# EAGLE library part 62504421721 (library Wire-to-Board (rev18a))
WR-BHD 2.00mm Male Angled Box Header, 44 Pins=>Code : Con_WTB_BHD_2.00_Male_THT_62504421721 <http://katalog.we-online.de/media/thumbs2/eican/thb_Con_WTB_BHD_2.00_Male_THT_6250xx21721_pf2.jpg> Details see: http://katalog.we-online.de/en/em/625_0xx_217_21 Created 2014-06-05, Karrer Zheng 2014 (C) Würth Elektronik
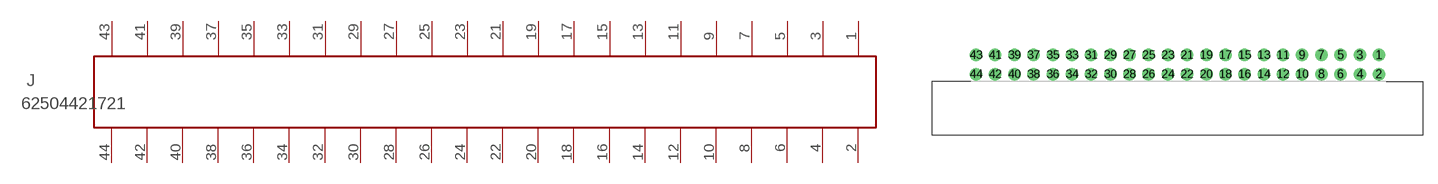
[diagram p256: symbol with the pads of 62504421721; footprint 62504421721]

Designator prefix J

## 62504421721  [62504421721]
1  1  pas
2  2  pas
3  3  pas
4  4  pas
5  5  pas
6  6  pas
7  7  pas
8  8  pas
9  9  pas
10  10  pas
11  11  pas
12  12  pas
13  13  pas
14  14  pas
15  15  pas
16  16  pas
17  17  pas
18  18  pas
19  19  pas
20  20  pas
21  21  pas
22  22  pas
23  23  pas
24  24  pas
25  25  pas
26  26  pas
27  27  pas
28  28  pas
29  29  pas
30  30  pas
31  31  pas
32  32  pas
33  33  pas
34  34  pas
35  35  pas
36  36  pas
37  37  pas
38  38  pas
39  39  pas
40  40  pas
41  41  pas
42  42  pas
43  43  pas
44  44  pas

## Footprint 62504421721 (pad centres in mm)
WR-BHD-2.00mm Male Angled Box Header,44 pins
drill 0.8: 1 21,1; 2 21,-1; 3 19,1; 4 19,-1; 5 17,1; 6 17,-1; 7 15,1; 8 15,-1; 9 13,1; 10 13,-1; 11 11,1; 12 11,-1; 13 9,1; 14 9,-1; 15 7,1; 16 7,-1; 17 5,1; 18 5,-1; 19 3,1; 20 3,-1; 21 1,1; 22 1,-1; 23 -1,1; 24 -1,-1; 25 -3,1; 26 -3,-1; 27 -5,1; 28 -5,-1; 29 -7,1; 30 -7,-1; 31 -9,1; 32 -9,-1; 33 -11,1; 34 -11,-1; 35 -13,1; 36 -13,-1; 37 -15,1; 38 -15,-1; 39 -17,1; 40 -17,-1; 41 -19,1; 42 -19,-1; 43 -21,1; 44 -21,-1